# EAGLE library part HS8836 (library CHIP_PRO_Dev-Kit)
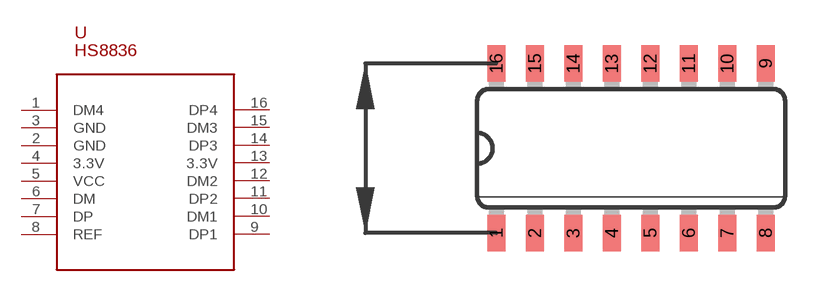
[diagram p8: symbol with the pads of SO16; footprint SO16]

Designator prefix -

## HS8836  [SO16]
1  DM4
2  GND
3  GND
4  3.3V
5  VCC
6  DM
7  DP
8  REF
9  DP1
10  DM1
11  DP2
12  DM2
13  3.3V
14  DP3
15  DM3
16  DP4

## Footprint SO16 (pad centres in mm)
Small Outline package 150 mil
smd 0.6 x 1.2: 1 -4.445,-2.8; 2 -3.175,-2.8; 3 -1.905,-2.8; 4 -0.635,-2.8; 5 0.635,-2.8; 6 1.905,-2.8; 7 3.175,-2.8; 8 4.445,-2.8; 9 4.445,2.8; 10 3.175,2.8; 11 1.905,2.8; 12 0.635,2.8; 13 -0.635,2.8; 14 -1.905,2.8; 15 -3.175,2.8; 16 -4.445,2.8